# EAGLE library part 418121270803 (library Eagle_Wuerth_Elektronik_Switch)
WS-IC-2.54 mm small compact SMD Dip Switch with raised actuator,6 pins,3 poles
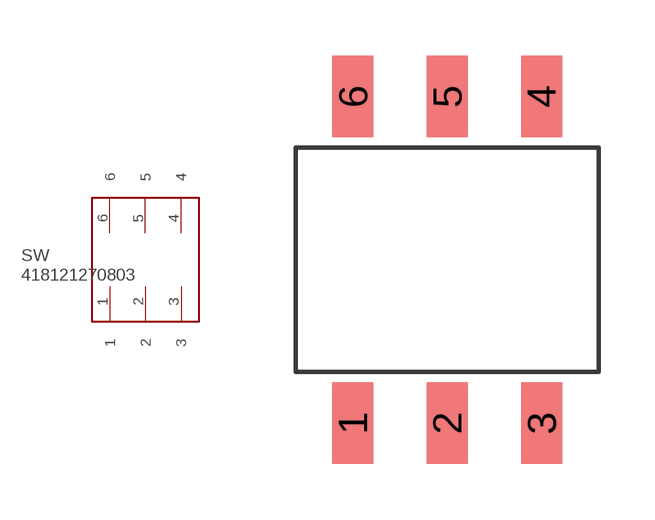
[diagram p39: symbol with the pads of 418121270803; footprint 418121270803]

Designator prefix SW

## 418121270803  [418121270803]
1  1
2  2
3  3
4  4
5  5
6  6

## Footprint 418121270803 (pad centres in mm)
WS-IC-2.54 mm small compact SMD Dip Switch with raised actuator,6 pins,3 poles
smd 1.1 x 2.2: 1 0,-4.4; 2 2.54,-4.4; 3 5.08,-4.4; 4 5.08,4.4; 5 2.54,4.4; 6 0,4.4